# Altium schematic symbol library GENERIC_PNP.SchLib: 1 symbol
Pins are listed as number, name and electrical type; pins without a type are passive.

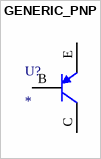
[diagram p0: symbol GENERIC_PNP]

## GENERIC_PNP
designator U?
pins: B, C, E